# EAGLE library part LSM6DS3TR (library My_Library)
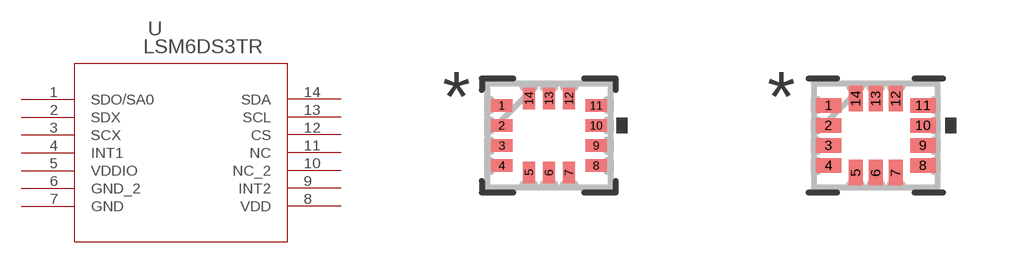
[diagram p30: symbol with the pads of LGA-14L_2P5X3X0P83_STM; footprints LGA-14L_2P5X3X0P83_STM, LGA-14L_2P5X3X0P83_STM-M]

Designator prefix U

## LSM6DS3TR (COPYRIGHT: Copyright (C) 2025 Ultra Librarian. All rights reserved.; MANUFACTURER_PART_NUMBER: LSM6DS3TR; MFR_NAME: STMicroelectronics)  [LGA-14L_2P5X3X0P83_STM]
1  SDO/SA0  out
2  SDX  pas
3  SCX  pas
4  INT1  pas
5  VDDIO  pwr
6  GND_2  pas
7  GND  pas
8  VDD  pwr
9  INT2  pas
10  NC_2  nc
11  NC  nc
12  CS  pas
13  SCL  pas
14  SDA  pas

## LSM6DS3TRLGA-14L_2P5X3X0P83_STM-M (COPYRIGHT: Copyright (C) 2025 Ultra Librarian. All rights reserved.; MANUFACTURER_PART_NUMBER: LSM6DS3TR; MFR_NAME: STMicroelectronics)  [LGA-14L_2P5X3X0P83_STM-M]
Pads as for LGA-14L_2P5X3X0P83_STM

## LSM6DS3TRLGA-14L_2P5X3X0P83_STM-L (COPYRIGHT: Copyright (C) 2025 Ultra Librarian. All rights reserved.; MANUFACTURER_PART_NUMBER: LSM6DS3TR; MFR_NAME: STMicroelectronics)  [LGA-14L_2P5X3X0P83_STM-L]
Pads as for LGA-14L_2P5X3X0P83_STM

## Footprint LGA-14L_2P5X3X0P83_STM (pad centres in mm)
smd 0.533 x 0.305: 1 -1.181,0.75; 2 -1.181,0.25; 3 -1.181,-0.25; 4 -1.181,-0.75; 8 1.181,-0.75; 9 1.181,-0.25; 10 1.181,0.25; 11 1.181,0.75
smd 0.305 x 0.533: 5 -0.5,-0.927; 6 0,-0.927; 7 0.5,-0.927; 12 0.5,0.927; 13 0,0.927; 14 -0.5,0.927

## Footprint LGA-14L_2P5X3X0P83_STM-M (pad centres in mm)
smd 0.635 x 0.356: 1 -1.181,0.75; 2 -1.181,0.25; 3 -1.181,-0.25; 4 -1.181,-0.75; 8 1.181,-0.75; 9 1.181,-0.25; 10 1.181,0.25; 11 1.181,0.75
smd 0.356 x 0.635: 5 -0.5,-0.927; 6 0,-0.927; 7 0.5,-0.927; 12 0.5,0.927; 13 0,0.927; 14 -0.5,0.927

## Footprint LGA-14L_2P5X3X0P83_STM-L (pad centres in mm)
smd 0.432 x 0.254: 1 -1.181,0.75; 2 -1.181,0.25; 3 -1.181,-0.25; 4 -1.181,-0.75; 8 1.181,-0.75; 9 1.181,-0.25; 10 1.181,0.25; 11 1.181,0.75
smd 0.254 x 0.432: 5 -0.5,-0.927; 6 0,-0.927; 7 0.5,-0.927; 12 0.5,0.927; 13 0,0.927; 14 -0.5,0.927